# Altium footprint library resistor.PCBLIB: 206 footprints (part 5 of 13)
Each footprint in its own frame and in the unit in brackets; x right, y up, seen from the top. Pads: shape width x height; smd on the part's side, far side on the other; paste and mask are expansions set on the pad; w line width, h text height; cw(c..) or ccw(c..) is an arc to the next point about the centre after c.
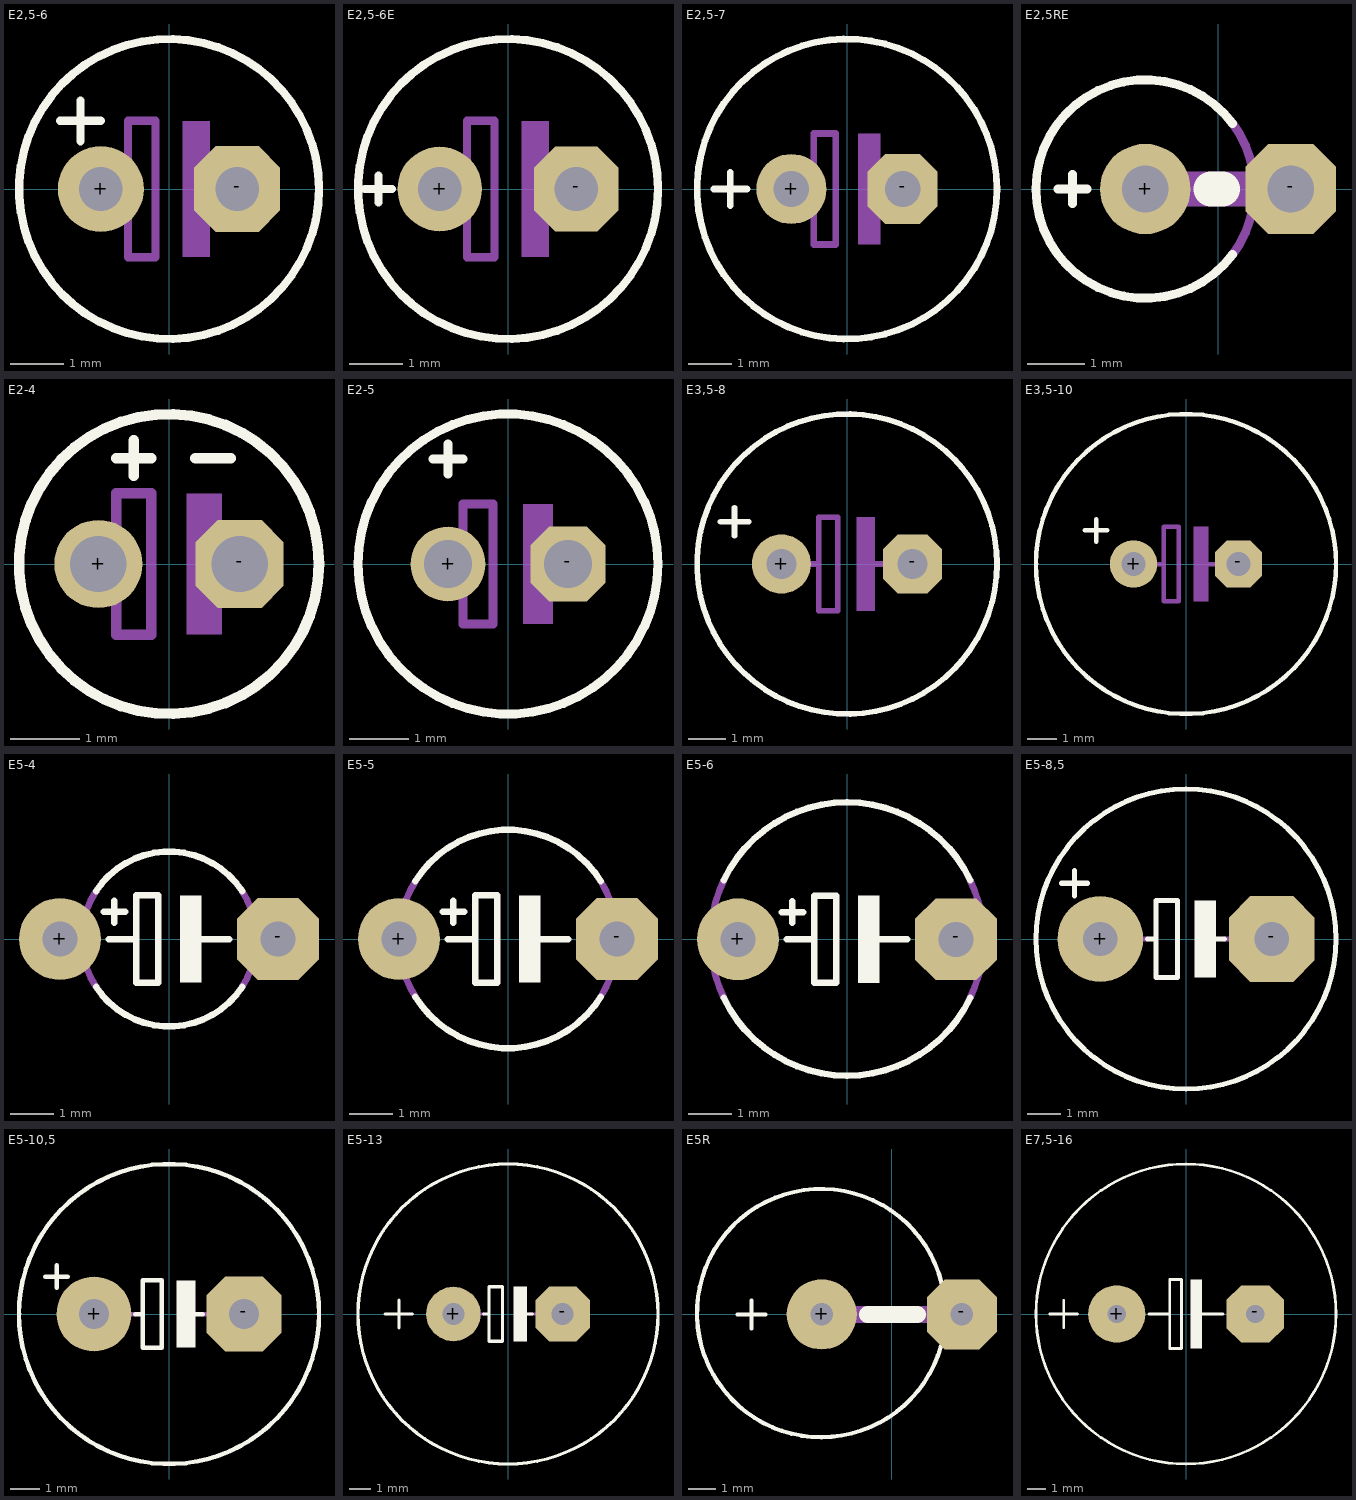
[diagram p4: the footprints below, top view; thin cyan lines are the x and y axes]

## E2,5-6 [mil]
pads (2):
  round 63 hole 32: +(-50,0)
  oct 63x63 hole 32: -(50,0)
Top Overlay:
  circle w6: c0,0 r110
  lines w6: -80,50 -65,50 ; -65,35 -65,50 ; -65,65 -65,50 ; -50,50 -65,50
Mechanical 16:
  rectangle: 10,-50 30,50
  lines w6: -65,0 -30,0 ; 25,0 65,0 ; -30,0 -30,-50 -10,-50 -10,50 -30,50 -30,0

## E2,5-6E [mil]
pads (2):
  round 62 hole 32: +(-50,0)
  oct 62x62 hole 32: -(50,0)
Top Overlay:
  circle w6: c0,0 r110
  lines w6: -105,0 -85,0 ; -95,-10 -95,10
Mechanical 16:
  rectangle: 10,-50 30,50
  lines w6: -65,0 -30,0 ; 25,0 65,0 ; -30,0 -30,-50 -10,-50 -10,50 -30,50 -30,0

## E2,5-7 [mil]
pads (2):
  round 63 hole 32: +(-50,0)
  oct 63x63 hole 32: -(50,0)
Top Overlay:
  circle w6: c0,0 r135
  lines w6: -120,0 -90,0 ; -105,-15 -105,15
Mechanical 16:
  rectangle: 10,-50 30,50
  lines w6: -65,0 -30,0 ; 25,0 65,0 ; -30,0 -30,-50 -10,-50 -10,50 -30,50 -30,0

## E2,5RE [mil]
pads (2):
  round 62 hole 32: +(-50,0)
  oct 62x62 hole 32: -(50,0)
Top Overlay:
  lines w6: -110,0 -90,0 ; -100,-10 -100,10 ; 10,-45 cw(c-50,0) 10,45
  lines w24: -5,0 3,0
Mechanical 16:
  lines w6: 10,-45 ccw(c-50,0) 10,45
  lines w24: -50,0 50,0

## E2-4 [mil]
pads (2):
  round 50 hole 32: +(-40,0)
  oct 50x50 hole 32: -(40,0)
Top Overlay:
  circle w6: c0,0 r85
  lines w6: -30,60 -10,60 ; -20,50 -20,70 ; 15,60 35,60
Mechanical 16:
  rectangle: 10,-40 30,40
  lines w6: -60,0 -30,0 ; 25,0 60,0 ; -30,0 -30,-40 -10,-40 -10,40 -30,40 -30,0

## E2-5 [mil]
pads (2):
  round 50 hole 32: +(-40,0)
  oct 50x50 hole 32: -(40,0)
Top Overlay:
  circle w6: c0,0 r100
  lines w6: -50,70 -30,70 ; -40,60 -40,80
Mechanical 16:
  rectangle: 10,-40 30,40
  lines w6: -60,0 -30,0 ; 25,0 60,0 ; -30,0 -30,-40 -10,-40 -10,40 -30,40 -30,0

## E3,5-8 [mil]
pads (2):
  round 63 hole 32: +(-70,0)
  oct 63x63 hole 32: -(70,0)
Top Overlay:
  circle w6: c0,0 r160
  lines w6: -135,45 -105,45 ; -120,30 -120,60
Mechanical 16:
  rectangle: 10,-50 30,50
  lines w6: -65,0 -30,0 ; 25,0 65,0 ; -30,0 -30,-50 -10,-50 -10,50 -30,50 -30,0

## E3,5-10 [mil]
pads (2):
  round 63 hole 32: +(-70,0)
  oct 63x63 hole 32: -(70,0)
Top Overlay:
  circle w6: c0,0 r200
  lines w6: -135,45 -105,45 ; -120,30 -120,60
Mechanical 16:
  rectangle: 10,-50 30,50
  lines w6: -65,0 -30,0 ; 25,0 65,0 ; -30,0 -30,-50 -10,-50 -10,50 -30,50 -30,0

## E5-4 [mil]
pads (2):
  round 75 hole 32: +(-100,0)
  oct 75x75 hole 32: -(100,0)
Top Overlay:
  rectangle: 10,-40 30,40
  lines w6: -66.87,-43.91 ccw(c0.07,0.04) 67,-43.91 ; -66.87,44 cw(c0.07,0.05) 67,44 ; -60,25 -40,25 ; -55,0 -30,0 ; -50,15 -50,35 ; 25,0 55,0 ; -30,0 -30,-40 -10,-40 -10,40 -30,40 -30,0
Mechanical 16:
  lines w6: -66.87,-43.91 cw(c0.07,0.05) -66.87,44 ; 67,-43.91 ccw(c0.06,0.05) 67,44

## E5-5 [mil]
pads (2):
  round 75 hole 32: +(-100,0)
  oct 75x75 hole 32: -(100,0)
Top Overlay:
  rectangle: 10,-40 30,40
  lines w6: -84.87,-52.88 ccw(c0.07,0.04) 85,-52.88 ; -84.87,53 cw(c0.07,0.08) 85,53 ; -60,25 -40,25 ; -55,0 -30,0 ; -50,15 -50,35 ; 25,0 55,0 ; -30,0 -30,-40 -10,-40 -10,40 -30,40 -30,0
Mechanical 16:
  lines w6: -84.87,-52.88 cw(c0.09,0.06) -84.87,53 ; 85,-52.88 ccw(c0.04,0.06) 85,53

## E5-6 [mil]
pads (2):
  round 75 hole 32: +(-100,0)
  oct 75x75 hole 32: -(100,0)
Top Overlay:
  rectangle: 10,-40 30,40
  lines w6: -113,-53.44 ccw(c0,0) 113,-53.44 ; -113,54 cw(c0,0.56) 113,54 ; -60,25 -40,25 ; -55,0 -30,0 ; -50,15 -50,35 ; 25,0 55,0 ; -30,0 -30,-40 -10,-40 -10,40 -30,40 -30,0
Mechanical 16:
  lines w6: -113,-53.44 cw(c0.59,0.28) -113,54 ; 113,-53.44 ccw(c-0.59,0.28) 113,54

## E5-8,5 [mil]
pads (2):
  round 100 hole 40: +(-100,0)
  oct 100x100 hole 40: -(100,0)
Top Overlay:
  circle w6: c0,0 r175
  rectangle: 10,-45 35,45
  lines w6: -145,65 -115,65 ; -130,50 -130,80 ; -45,0 -35,0 ; 25,0 45,0 ; -35,0 -35,-45 -10,-45 -10,45 -35,45 -35,0
Mechanical 16:
  lines w6: -65,0 -45,0 ; 45,0 65,0

## E5-10,5 [mil]
pads (2):
  round 100 hole 40: +(-100,0)
  oct 100x100 hole 40: -(100,0)
Top Overlay:
  circle w6: c0,0 r200
  rectangle: 10,-45 35,45
  lines w6: -165,50 -135,50 ; -150,35 -150,65 ; -45,0 -35,0 ; 25,0 45,0 ; -35,0 -35,-45 -10,-45 -10,45 -35,45 -35,0
Mechanical 16:
  lines w6: -65,0 -45,0 ; 45,0 65,0

## E5-13 [mil]
pads (2):
  round 100 hole 40: +(-100,0)
  oct 100x100 hole 40: -(100,0)
Top Overlay:
  circle w6: c0,0 r275
  rectangle: 10,-50 35,50
  lines w6: -225,0 -175,0 ; -200,-25 -200,25 ; -45,0 -35,0 ; 25,0 45,0 ; -35,0 -35,-50 -10,-50 -10,50 -35,50 -35,0
Mechanical 16:
  lines w6: -65,0 -45,0 ; 40,0 60,0

## E5R [mil]
pads (2):
  round 100 hole 32: +(-100,0)
  oct 100x100 hole 32: -(100,0)
Top Overlay:
  lines w6: -220,0 -180,0 ; -200,-20 -200,20 ; 70,-45 cw(c-100.74,1.9) 71,45
  lines w24: -35,0 37,0
Mechanical 16:
  lines w6: 70,46 cw(c-99.93,-1.37) 71,-45
  lines w24: -100,0 -40,0 ; 45,0 100,0

## E7,5-16 [mil]
pads (2):
  round 124 hole 40: +(-150,0)
  oct 124x124 hole 40: -(150,0)
Top Overlay:
  circle w6: c0,0 r325
  rectangle: 10,-75 35,75
  lines w6: -295,0 -235,0 ; -265,-30 -265,30 ; -80,0 -35,0 ; 25,0 80,0 ; -35,0 -35,75 -10,75 -10,-75 -35,-75 -35,0